# Altium footprint library B32921C3103M000.PcbLib: 1 footprints
Each footprint in its own frame and in the unit in brackets; x right, y up, seen from the top. Pads: shape width x height; smd on the part's side, far side on the other; paste and mask are expansions set on the pad; w line width, h text height; cw(c..) or ccw(c..) is an arc to the next point about the centre after c.
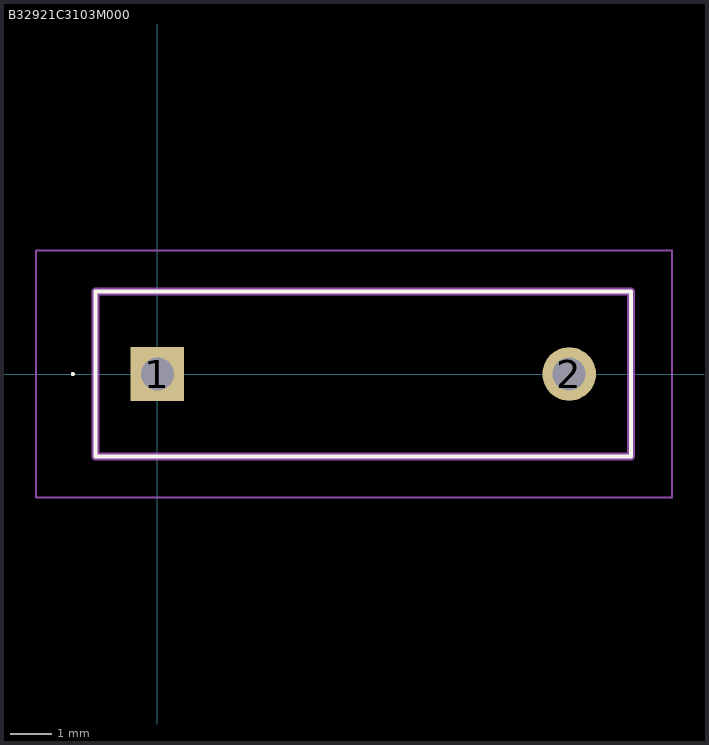
[diagram p0: the footprint, top view; thin cyan lines are the x and y axes]

## B32921C3103M000 [mm]
pads (2):
  rect 1.3x1.3 hole 0.8: 1(0,0)
  round 1.3 hole 0.8: 2(10,0)
Top Overlay:
  lines w0.05: -2.075,0 -2.075,0 ; -2.075,0 ccw(c-2.05,0) -2.025,0 ; -2.075,0 cw(c-2.05,0) -2.025,0 ; -2.025,0 -2.025,0
  lines w0.1: -1.5,-2 11.5,-2 11.5,2 -1.5,2 -1.5,-2
Mechanical 15:
  lines w0.2: -1.5,-2 11.5,-2 11.5,2 -1.5,2 -1.5,-2
Mechanical 20:
  lines w0.05: -2.95,-3 12.5,-3 12.5,3 -2.95,3 -2.95,-3